# Altium footprint library 19C2830103-JOB.PcbLib: 69 footprints (part 4 of 6)
Each footprint in its own frame and in the unit in brackets; x right, y up, seen from the top. Pads: shape width x height; smd on the part's side, far side on the other; paste and mask are expansions set on the pad; w line width, h text height; cw(c..) or ccw(c..) is an arc to the next point about the centre after c.
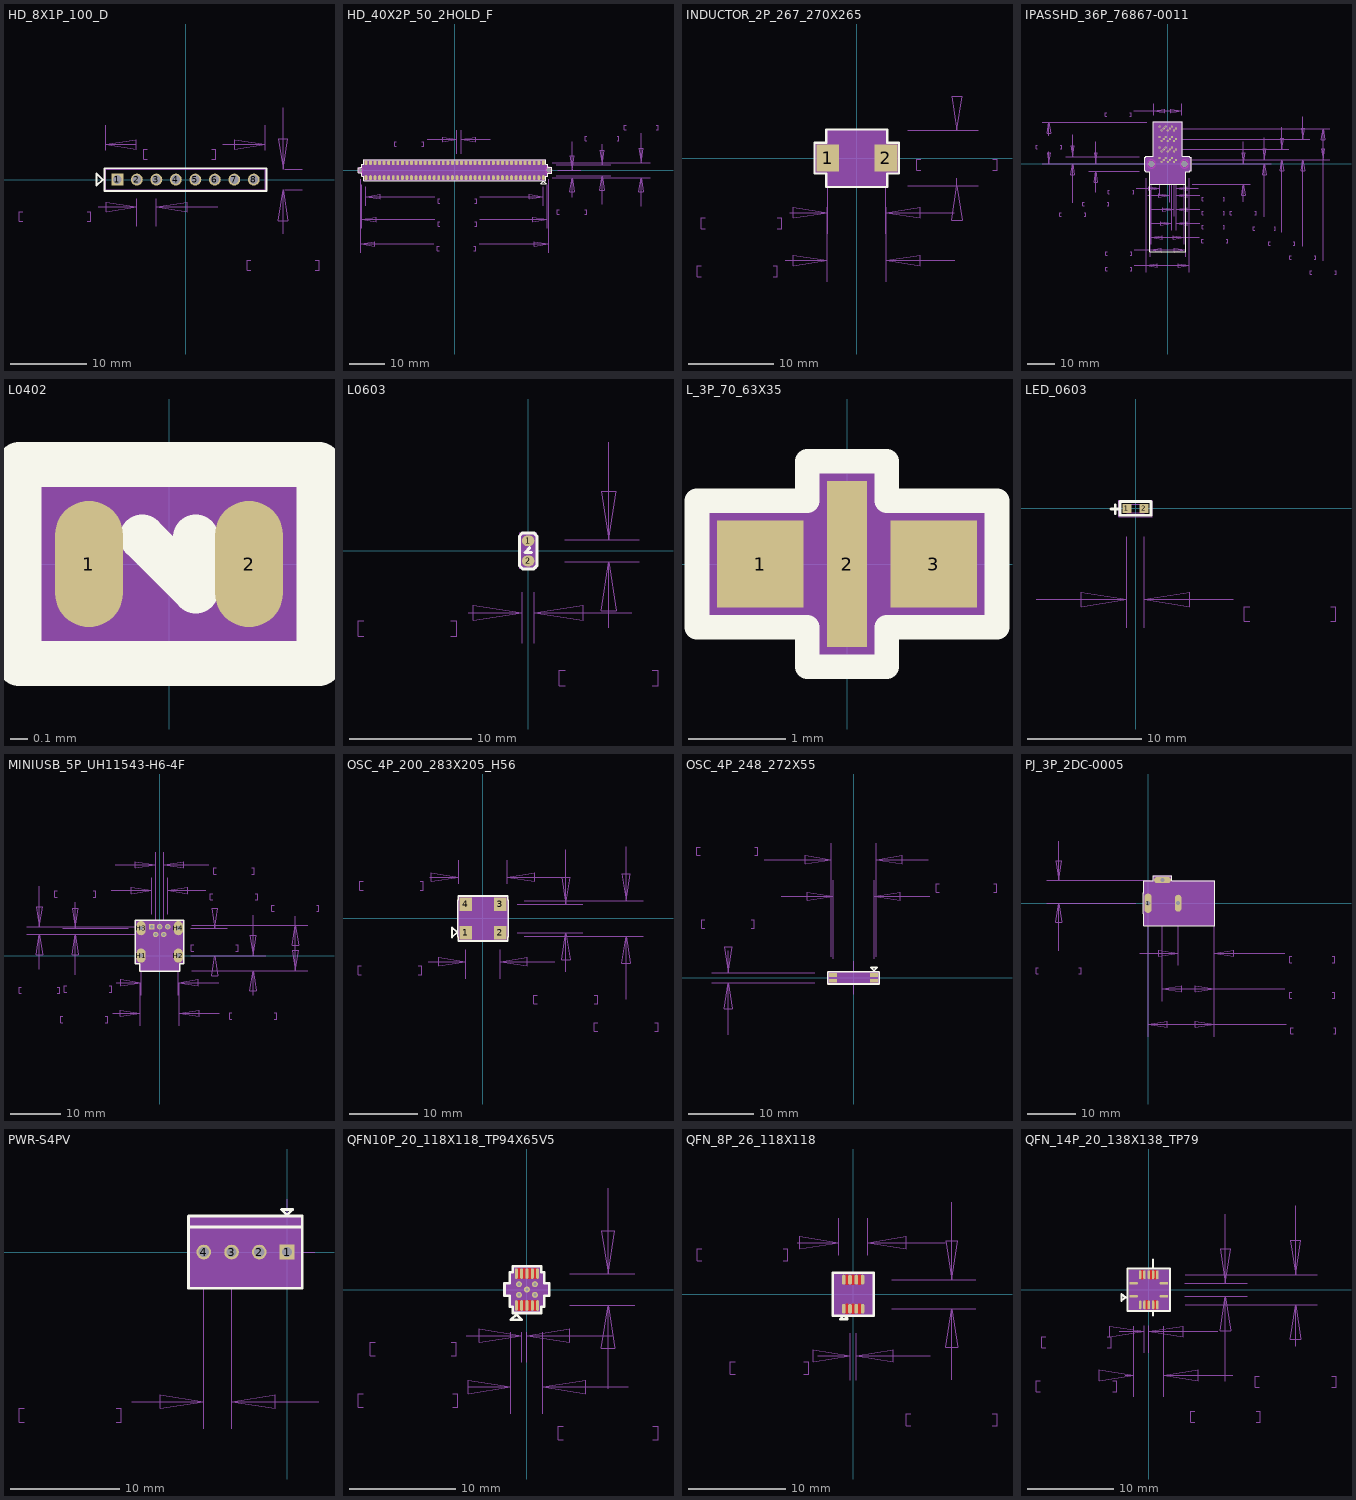
[diagram p3: the footprints below, top view; thin cyan lines are the x and y axes]

## HD_8X1P_100_D [mil] "HD_8X1P_100_D"
pads (8):
  rect 61x61 / inner rect 57x57 / far side rect 61x61 hole 45: 1(-350,0)
  round 61 / inner round 57 / far side round 61 hole 45: 2(-250,0) 3(-150,0) 4(-50,0) 5(50,0) 6(150,0) 7(250,0) 8(350,0)
Top Overlay:
  lines w10: -456,-30 -456,30 -426,0 -456,-30 ; -414.84,-57.95 -414.84,57.95 414.84,57.95 414.84,-57.95 -414.84,-57.95
Mechanical 15:
  text "2" at -261.2,0 h28
  text "1" at -361.2,0 h28
  text "6" at 138.8,0 h28
  text "4" at -61.2,0 h28
  text "7" at 238.8,0 h28
  text "3" at -161.2,0 h28
  text "8" at 338.8,0 h28
  text "5" at 38.8,0 h28
Mechanical 16:
  lines w1: -835.5,-215 -854.5,-215 -854.5,-165 -835.5,-165 ; -504.5,-215 -485.5,-215 -485.5,-165 -504.5,-165 ; -448,-140 -250,-140 ; -409.84,151.38 -409.84,278.43 ; -252,180 -409.84,180 ; -250,-238.43 -250,-98.43 ; -195.5,105 -214.5,105 -214.5,155 -195.5,155 ; -150,-238.43 -150,-98.43 ; 135.5,105 154.5,105 154.5,155 135.5,155 ; 164.96,-140 -150,-140 ; 192,180 409.84,180 ; 334.5,-465 315.5,-465 315.5,-415 334.5,-415 ; 409.84,151.38 409.84,278.43 ; 500,-277.5 500,-52.95 ; 500,367.91 500,52.95 ; 508.27,-52.95 598.43,-52.95 ; 508.27,52.95 598.43,52.95 ; 665.5,-465 684.5,-465 684.5,-415 665.5,-415 ; -409.84,-52.95 409.84,-52.95 ; -409.84,-52.95 -409.84,52.95 ; -409.84,-52.95 -409.84,52.95 ; -409.84,-52.95 409.84,-52.95 ; -409.84,52.95 409.84,52.95 ; -409.84,52.95 409.84,52.95 ; -409.84,180 -252.36,155.39 -252.36,204.61 -409.84,180 ; -250,-140 -407.48,-115.39 -407.48,-164.61 -250,-140 ; -150,-140 7.48,-164.61 7.48,-115.39 -150,-140 ; 409.84,-52.95 409.84,52.95 ; 409.84,-52.95 409.84,52.95 ; 409.84,180 252.36,204.61 252.36,155.39 409.84,180 ; 500,-52.95 475.39,-210.43 524.61,-210.43 500,-52.95 ; 500,52.95 524.61,210.43 475.39,210.43 500,52.95 ; -414.84,-57.95 -414.84,57.95 414.84,57.95 414.84,-57.95 -414.84,-57.95
Mechanical 17:
  text "2.54" at -765.5,-115 h36
  text "100.00" at -816.5,-215 h36
  text "20.82" at -151,205 h36
  text "819.69" at -176.5,105 h36
  text "2.69" at 404.5,-365 h36
  text "105.91" at 353.5,-465 h36
Mechanical 21:
  text ".Designator" at -105.8,-9.33 h28

## HD_40X2P_50_2HOLD_F [mil] "HD_40X2P_50_2HOLD_F"
pads (82):
  oval 32x53 smd: 1(975,-81.69) 2(975,81.69) 3(925,-81.69) 4(925,81.69) 5(875,-81.69) 6(875,81.69) 7(825,-81.69) 8(825,81.69) 9(775,-81.69) 10(775,81.69) 11(725,-81.69) 12(725,81.69) 13(675,-81.69) 14(675,81.69) 15(625,-81.69) 16(625,81.69) 17(575,-81.69) 18(575,81.69) 19(525,-81.69) 20(525,81.69) 21(475,-81.69) 22(475,81.69) 23(425,-81.69) 24(425,81.69) 25(375,-81.69) 26(375,81.69) 27(325,-81.69) 28(325,81.69) 29(275,-81.69) 30(275,81.69) 31(225,-81.69) 32(225,81.69) 33(175,-81.69) 34(175,81.69) 35(125,-81.69) 36(125,81.69) 37(75,-81.69) 38(75,81.69) 39(25,-81.69) 40(25,81.69) 41(-25,-81.69) 42(-25,81.69) 43(-75,-81.69) 44(-75,81.69) 45(-125,-81.69) 46(-125,81.69) 47(-175,-81.69) 48(-175,81.69) 49(-225,-81.69) 50(-225,81.69) 51(-275,-81.69) 52(-275,81.69) 53(-325,-81.69) 54(-325,81.69) 55(-375,-81.69) 56(-375,81.69) 57(-425,-81.69) 58(-425,81.69) 59(-475,-81.69) 60(-475,81.69) 61(-525,-81.69) 62(-525,81.69) 63(-575,-81.69) 64(-575,81.69) 65(-625,-81.69) 66(-625,81.69) 67(-675,-81.69) 68(-675,81.69) 69(-725,-81.69) 70(-725,81.69) 71(-775,-81.69) 72(-775,81.69) 73(-825,-81.69) 74(-825,81.69) 75(-875,-81.69) 76(-875,81.69) 77(-925,-81.69) 78(-925,81.69) 79(-975,-81.69) 80(-975,81.69)
  round 35 hole 35: H1(-1034.84,0)
  round 51 hole 51: H2(1034.84,0)
Top Overlay:
  lines w10: -1060.34,-25.5 -1060.34,25.5 -1034.84,25.5 -1034.84,33.5 -1023.7,33.5 -1023.7,67.01 -999,67.01 -999,116.19 999,116.19 999,67.01 1023.7,67.01 1023.7,33.5 1068.34,33.5 1068.34,-33.5 1023.7,-33.5 1023.7,-67.01 999,-67.01 999,-116.19 -999,-116.19 -999,-67.01 -1023.7,-67.01 -1023.7,-25.5 -1060.34,-25.5 ; 945,-151.19 975,-121.19 1005,-151.19 945,-151.19
  text ".Designator" at 1009.8,-120 h36
Mechanical 15:
  text "H2" at 1014.68,0 h25.2
  text "H1" at -1055,0 h25.2
  text "2" at 964.92,81.69 h25.2
  text "4" at 914.92,81.69 h25.2
  text "6" at 864.92,81.69 h25.2
  text "8" at 814.92,81.69 h25.2
  text "10" at 754.84,81.69 h25.2
  text "12" at 704.84,81.69 h25.2
  text "14" at 654.84,81.69 h25.2
  text "16" at 604.84,81.69 h25.2
  text "18" at 554.84,81.69 h25.2
  text "20" at 504.84,81.69 h25.2
  text "22" at 454.84,81.69 h25.2
  text "24" at 404.84,81.69 h25.2
  text "26" at 354.84,81.69 h25.2
  text "28" at 304.84,81.69 h25.2
  text "30" at 254.84,81.69 h25.2
  text "32" at 204.84,81.69 h25.2
  text "34" at 154.84,81.69 h25.2
  text "36" at 104.84,81.69 h25.2
  text "38" at 54.84,81.69 h25.2
  text "40" at 4.84,81.69 h25.2
  text "42" at -45.16,81.69 h25.2
  text "44" at -95.16,81.69 h25.2
  text "46" at -145.16,81.69 h25.2
  text "48" at -195.16,81.69 h25.2
  text "43" at -95.16,-81.69 h25.2
  text "45" at -145.16,-81.69 h25.2
  text "39" at 4.84,-81.69 h25.2
  text "41" at -45.16,-81.69 h25.2
  text "7" at 814.92,-81.69 h25.2
  text "9" at 764.92,-81.69 h25.2
  text "27" at 304.84,-81.69 h25.2
  text "29" at 254.84,-81.69 h25.2
  text "31" at 204.84,-81.69 h25.2
  text "33" at 154.84,-81.69 h25.2
  text "35" at 104.84,-81.69 h25.2
  text "37" at 54.84,-81.69 h25.2
  text "11" at 704.84,-81.69 h25.2
  text "13" at 654.84,-81.69 h25.2
  text "15" at 604.84,-81.69 h25.2
  text "17" at 554.84,-81.69 h25.2
  text "19" at 504.84,-81.69 h25.2
  text "21" at 454.84,-81.69 h25.2
  text "23" at 404.84,-81.69 h25.2
  text "25" at 354.84,-81.69 h25.2
  text "47" at -195.16,-81.69 h25.2
  text "51" at -295.16,-81.69 h25.2
  text "53" at -345.16,-81.69 h25.2
  text "49" at -245.16,-81.69 h25.2
  text "50" at -245.16,81.69 h25.2
  text "52" at -295.16,81.69 h25.2
  text "54" at -345.16,81.69 h25.2
  text "56" at -395.16,81.69 h25.2
  text "58" at -445.16,81.69 h25.2
  text "60" at -495.16,81.69 h25.2
  text "62" at -545.16,81.69 h25.2
  text "64" at -595.16,81.69 h25.2
  text "66" at -645.16,81.69 h25.2
  text "68" at -695.16,81.69 h25.2
  text "70" at -745.16,81.69 h25.2
  text "72" at -795.16,81.69 h25.2
  text "74" at -845.16,81.69 h25.2
  text "76" at -895.16,81.69 h25.2
  text "78" at -945.16,81.69 h25.2
  text "80" at -995.16,81.69 h25.2
  text "5" at 864.92,-81.69 h25.2
  text "3" at 914.92,-81.69 h25.2
  text "67" at -695.16,-81.69 h25.2
  text "65" at -645.16,-81.69 h25.2
  text "55" at -395.16,-81.69 h25.2
  text "59" at -495.16,-81.69 h25.2
  text "57" at -445.16,-81.69 h25.2
  text "61" at -545.16,-81.69 h25.2
  text "77" at -945.16,-81.69 h25.2
  text "75" at -895.16,-81.69 h25.2
  text "73" at -845.16,-81.69 h25.2
  text "71" at -795.16,-81.69 h25.2
  text "1" at 964.92,-81.69 h25.2
  text "79" at -995.16,-81.69 h25.2
  text "63" at -595.16,-81.69 h25.2
  text "69" at -745.16,-81.69 h25.2
Mechanical 16:
  pour cut-out: 999,116.19 999,67.01 1023.7,67.01 1023.7,33.5 1068.34,33.5 1068.34,-33.5 1023.7,-33.5 1023.7,-67.01 999,-67.01 999,-116.19 -999,-116.19 -999,-67.01 -1023.7,-67.01 -1023.7,-25.5 -1060.34,-25.5 -1060.34,25.5 -1034.84,25.5 -1034.84,33.5 -1023.7,33.5 -1023.7,67.01 -999,67.01 -999,116.19
  lines w1: -1034.84,-908.43 -1034.84,-98.43 ; -1018.7,-638.43 -1018.7,-160.43 ; -975,-388.43 -975,-180.12 ; -640.54,265 -659.64,265 -659.64,315 -640.54,315 ; -359.46,265 -340.36,265 -340.36,315 -359.46,315 ; -302.86,340 25,340 ; -228.31,-810 -1034.84,-810 ; -218.31,-540 -1018.7,-540 ; -218.31,-290 -975,-290 ; -171.72,-885 -190.81,-885 -190.81,-835 -171.72,-835 ; -161.72,-615 -180.81,-615 -180.81,-565 -161.72,-565 ; -161.72,-365 -180.81,-365 -180.81,-315 -161.72,-315 ; 25,180.12 25,438.43 ; 75,180.12 75,438.43 ; 211.72,-885 230.81,-885 230.81,-835 211.72,-835 ; 221.72,-615 240.81,-615 240.81,-565 221.72,-565 ; 221.72,-365 240.81,-365 240.81,-315 221.72,-315 ; 268.31,-810 1034.84,-810 ; 278.31,-540 1018.7,-540 ; 278.31,-290 975,-290 ; 389.96,340 75,340 ; 975,-388.43 975,-180.12 ; 1018.7,-638.43 1018.7,-160.43 ; 1034.84,-908.43 1034.84,-98.43 ; 1073.43,81.69 2148.43,81.69 ; 1117.13,-62.01 1718.43,-62.01 ; 1117.13,62.01 1718.43,62.01 ; 1133.27,0 1388.43,0 ; 1149.46,-485 1130.36,-485 1130.36,-435 1149.46,-435 ; 1290,-297.5 1290,-81.69 ; 1290,314.96 1290,0 ; 1388.43,-81.69 1073.43,-81.69 2148.43,-81.69 ; 1430.54,-485 1449.64,-485 1449.64,-435 1430.54,-435 ; 1453.87,325 1434.77,325 1434.77,375 1453.87,375 ; 1620,-376.97 1620,-62.01 ; 1620,287.5 1620,62.01 ; 1786.13,325 1805.22,325 1805.22,375 1786.13,375 ; 1883.87,445 1864.77,445 1864.77,495 1883.87,495 ; 2050,-396.65 2050,-81.69 ; 2050,407.5 2050,81.69 ; 2216.13,445 2235.22,445 2235.22,495 2216.13,495 ; -1034.84,-810 -877.36,-834.61 -877.36,-785.39 -1034.84,-810 ; -1018.7,-540 -861.22,-564.61 -861.22,-515.39 -1018.7,-540 ; -1018.7,-62.01 1018.7,-62.01 ; -1018.7,-62.01 -1018.7,62.01 ; -1018.7,-62.01 -1018.7,62.01 ; -1018.7,-62.01 1018.7,-62.01 ; -1018.7,62.01 1018.7,62.01 ; -1018.7,62.01 1018.7,62.01 ; -975,-290 -817.52,-314.61 -817.52,-265.39 -975,-290 ; 25,340 -132.48,364.61 -132.48,315.39 25,340 ; 75,340 232.48,315.39 232.48,364.61 75,340 ; 975,-290 817.52,-265.39 817.52,-314.61 975,-290 ; 1018.7,-540 861.22,-515.39 861.22,-564.61 1018.7,-540 ; 1018.7,-62.01 1018.7,62.01 ; 1018.7,-62.01 1018.7,62.01 ; 1034.84,-810 877.36,-785.39 877.36,-834.61 1034.84,-810 ; 1290,-81.69 1265.39,-239.17 1314.61,-239.17 1290,-81.69 ; 1290,0 1314.61,157.48 1265.39,157.48 1290,0 ; 1620,-62.01 1595.39,-219.49 1644.61,-219.49 1620,-62.01 ; 1620,62.01 1644.61,219.49 1595.39,219.49 1620,62.01 ; 2050,-81.69 2025.39,-239.17 2074.61,-239.17 2050,-81.69 ; 2050,81.69 2074.61,239.17 2025.39,239.17 2050,81.69
Multi-Layer keep-out:
  circle w1: c1034.84,0 r35.5
  circle w1: c-1034.84,0 r27.5
Mechanical 17:
  text "163.39" at 1902.96,445 h50
  text "4.15" at 1954.14,545 h50
  text "124.02" at 1472.96,325 h50
  text "3.15" at 1524.14,425 h50
  text "81.69" at 1168.55,-485 h50
  text "2.08" at 1194.14,-385 h50
  text "50.00" at -621.45,265 h50
  text "1.27" at -595.86,365 h50
  text "2069.69" at -152.63,-885 h50
  text "52.57" at -101.45,-785 h50
  text "2037.40" at -142.63,-615 h50
  text "51.75" at -91.45,-515 h50
  text "1950.00" at -142.63,-365 h50
  text "49.53" at -91.45,-265 h50

## INDUCTOR_2P_267_270X265 [mil] "INDUCTOR_2P_267_270X265"
pads (2):
  rect 105x125 smd: 1(-133.6,0) 2(133.6,0)
Top Overlay:
  lines w10: -194.1,-70.5 -194.1,70.5 -140.04,70.5 -140.04,132.36 140.04,132.36 140.04,70.5 194.1,70.5 194.1,-70.5 140.04,-70.5 140.04,-132.36 -140.04,-132.36 -140.04,-70.5 -194.1,-70.5
Mechanical 15:
  text "2" at 133.6,-11.2 h28
  text "1" at -133.6,-11.2 h28
Mechanical 16:
  pour cut-out: 140.04,132.36 140.04,70.5 194.1,70.5 194.1,-70.5 140.04,-70.5 140.04,-132.36 -140.04,-132.36 -140.04,-70.5 -194.1,-70.5 -194.1,70.5 -140.04,70.5 -140.04,132.36
  region: -135.04,-127.36 135.04,-127.36 135.04,127.36 -135.04,127.36
  lines w1: -715.5,-545 -734.5,-545 -734.5,-495 -715.5,-495 ; -695.5,-325 -714.5,-325 -714.5,-275 -695.5,-275 ; -384.5,-545 -365.5,-545 -365.5,-495 -384.5,-495 ; -364.5,-325 -345.5,-325 -345.5,-275 -364.5,-275 ; -328,-470 -135.04,-470 ; -308,-250 -133.6,-250 ; -135.04,-568.43 -135.04,-225.79 ; -133.6,-348.43 -133.6,-98.43 ; 133.6,-348.43 133.6,-98.43 ; 135.04,-568.43 135.04,-225.79 ; 233.46,-127.36 558.43,-127.36 ; 233.46,127.36 558.43,127.36 ; 294.5,-55 275.5,-55 275.5,-5 294.5,-5 ; 448.56,-250 133.6,-250 ; 450,-470 135.04,-470 ; 460,-92.5 460,-127.36 ; 460,132.5 460,127.36 ; 625.5,-55 644.5,-55 644.5,-5 625.5,-5 ; -135.04,-470 -292.52,-494.61 -292.52,-445.39 -135.04,-470 ; -133.6,-250 -291.08,-274.61 -291.08,-225.39 -133.6,-250 ; 133.6,-250 291.08,-225.39 291.08,-274.61 133.6,-250 ; 135.04,-470 292.52,-445.39 292.52,-494.61 135.04,-470 ; 460,-127.36 484.61,-284.84 435.39,-284.84 460,-127.36 ; 460,127.36 435.39,284.84 484.61,284.84 460,127.36 ; -135.04,-127.36 -135.04,127.36 135.04,127.36 135.04,-127.36 -135.04,-127.36
Mechanical 17:
  text "254.72" at 313.5,-55 h36
  text "6.47" at 364.5,45 h36
  text "270.08" at -696.5,-545 h36
  text "6.86" at -645.5,-445 h36
  text "267.20" at -676.5,-325 h36
  text "6.79" at -625.5,-225 h36
3D body: height 150, standoff 0, extent -135.04,-127.36 135.04,127.36

## IPASSHD_36P_76867-0011 [mil] "IPASSHD_36P_76867-0011"
pads (38):
  rect 31x31 / inner rect 27x27 / far side rect 31x31 hole 15: A1(-118.11,84.65)
  round 31 / inner round 27 / far side round 31 hole 15: A2(-88.58,29.53) A3(-59.06,57.09) A4(-29.53,84.65) A5(0,29.53) A6(29.53,57.09) A7(59.06,84.65) A8(88.58,29.53) A9(118.11,57.09) B1(-118.11,234.25) B2(-88.58,179.13) B3(-59.06,206.69) B4(-29.53,234.25) B5(0,179.13) B6(29.53,206.69) B7(59.06,234.25) B8(88.58,179.13) B9(118.11,206.69) C1(-118.11,383.86) C2(-88.58,328.74) C3(-59.06,356.3) C4(-29.53,383.86) C5(0,328.74) C6(29.53,356.3) C7(59.06,383.86) C8(88.58,328.74) C9(118.11,356.3) D1(-118.11,533.46) D2(-88.58,478.35) D3(-59.06,505.91) D4(-29.53,533.46) D5(0,478.35) D6(29.53,505.91) D7(59.06,533.46) D8(88.58,478.35) D9(118.11,505.91)
  round 87 / inner round 99 / far side round 177 hole 87: H1(-236.22,0) H2(236.22,0)
Top Layer keep-out:
  circle w1: c-236.22,0 r59.06
  circle w1: c236.22,0 r59.06
Top Overlay:
  lines w10: -257.95,-292.4 -257.95,-109.33 -313.27,-109.33 -313.27,-96.5 -332.72,-96.5 -332.72,96.5 -313.27,96.5 -313.27,109.72 -206.77,109.72 -206.77,603.03 206.77,603.03 206.77,109.72 313.27,109.72 313.27,96.5 332.72,96.5 332.72,-96.5 313.27,-96.5 313.27,-109.33 257.95,-109.33 257.95,-292.4 ; -257.95,-292.4 257.95,-292.4 ; -257.95,-292.4 -257.95,-1255 257.95,-1255 257.95,-292.4
  text ".Designator" at -238,221 h36
Mechanical 15:
  text "A2" at -88.58,9.53 h25
  text "D2" at -88.58,458.35 h25
  text "B5" at 0,159.13 h25
  text "B8" at 88.58,159.13 h25
  text "B7" at 59.06,214.25 h25
  text "B4" at -29.53,214.25 h25
  text "D1" at -118.11,513.46 h25
  text "D5" at 0,458.35 h25
  text "B2" at -88.58,159.13 h25
  text "A4" at -29.53,64.65 h25
  text "C2" at -88.58,308.74 h25
  text "D8" at 88.58,458.35 h25
  text "C4" at -29.53,363.86 h25
  text "C5" at 0,308.74 h25
  text "A7" at 59.06,64.65 h25
  text "C8" at 88.58,308.74 h25
  text "D7" at 59.06,513.46 h25
  text "C7" at 59.06,363.86 h25
  text "C1" at -118.11,363.86 h25
  text "B1" at -118.11,214.25 h25
  text "A8" at 88.58,9.53 h25
  text "A1" at -118.11,64.65 h25
  text "D4" at -29.53,513.46 h25
  text "A5" at 0,9.53 h25
  text "D9" at 118.11,485.91 h25
  text "D6" at 29.53,485.91 h25
  text "D3" at -59.06,485.91 h25
  text "C9" at 118.11,336.3 h25
  text "C6" at 29.53,336.3 h25
  text "C3" at -59.06,336.3 h25
  text "B9" at 118.11,186.69 h25
  text "B6" at 29.53,186.69 h25
  text "B3" at -59.06,186.69 h25
  text "A3" at -59.06,37.09 h25
  text "A6" at 29.53,37.09 h25
  text "A9" at 118.11,37.09 h25
  text "H1" at -236.22,-20 h25
  text "H2" at 236.22,-20 h25
Mechanical 16:
  drawing of 270 lines, arcs and shapes, not listed
Mechanical 17:
  text "6" at -689,-325 h50
  text "236.22" at -816.5,-425 h50
  text "2.25" at 554.5,-425 h50
  text "88.58" at 529,-525 h50
  text "0.75" at 554.5,-625 h50
  text "29.53" at 529,-725 h50
  text "1.5" at 580,-825 h50
  text "59.06" at 529,-925 h50
  text "12" at 625.5,-1025 h50
  text "472.44" at 523.5,-1125 h50
  text "12.85" at -821,-1205 h50
  text "505.91" at -846.5,-1305 h50
  text "15.66" at -821,-1425 h50
  text "616.54" at -846.5,-1525 h50
  text "10.25" at -831,785 h50
  text "403.54" at -856.5,685 h50
  text "7.3" at 1010,-625 h50
  text "287.40" at 933.5,-725 h50
  text "2.65" at -1125.5,-495 h50
  text "104.33" at -1176.5,-595 h50
  text "2.66" at -1455.5,-645 h50
  text "104.72" at -1506.5,-745 h50
  text "15.19" at -1821,315 h50
  text "598.03" at -1846.5,215 h50
  text "1.45" at 1284.5,-845 h50
  text "57.09" at 1259,-945 h50
  text "3.8" at 1560,-1065 h50
  text "149.61" at 1483.5,-1165 h50
  text "7.6" at 1860,-1265 h50
  text "299.21" at 1783.5,-1365 h50
  text "11.4" at 2124.5,-1475 h50
  text "448.82" at 2073.5,-1575 h50
3D body: height 150, standoff 0, extent -308.27,-287.4 308.27,598.03

## L0402 [mil] "L0402"
pads (2):
  oval 15x28 smd: 1(-17.72,0) 2(17.72,0)
Top Overlay:
  lines w10: -5.91,5.91 5.91,-5.91 5.91,5.91 ; -33.22,-22 -33.22,22 33.22,22 33.22,-22 -33.22,-22
Mechanical 15:
  text "1" at -17.72,11.2 h28
  text "2" at 17.72,11.2 h28
Mechanical 16:
  pour cut-out: -33.22,-22 33.22,-22 33.22,22 -33.22,22
  region: -19.68,-9.84 19.68,-9.84 19.68,9.84 -19.68,9.84
  lines w1: -19.68,-9.84 19.68,-9.84 19.68,9.84 -19.68,9.84 -19.68,-9.84
3D body: height 150, standoff 0, extent -19.68,-9.84 19.68,9.84

## L0603 [mil] "L0603"
pads (2):
  oval 40x35 smd: 1(0,32.5) 2(0,-32.5)
Top Overlay:
  lines w10: 5,10 -10,-5 10,-5 ; -28,-48 -28,48 -18,58 18,58 28,48 28,-48 18,-58 -18,-58 -28,-48
Mechanical 15:
  text "1" at 0,21.3 h28
  text "2" at 0,-43.7 h28
Mechanical 16:
  pour cut-out: -28,-58 28,-58 28,58 -28,58
  region: -19.68,-35.43 19.68,-35.43 19.68,35.43 -19.68,35.43
  lines w1: -530,-275 -549,-275 -549,-225 -530,-225 ; -250,-275 -231,-275 -231,-225 -250,-225 ; -193.5,-200 -19.68,-200 ; -19.68,-298.43 -19.68,-133.86 ; 19.68,-298.43 19.68,-133.86 ; 118.11,-35.43 358.43,-35.43 ; 118.11,35.43 358.43,35.43 ; 120,-435 101,-435 101,-385 120,-385 ; 260,-247.5 260,-35.43 ; 260,350.39 260,35.43 ; 334.64,-200 19.68,-200 ; 400,-435 419,-435 419,-385 400,-385 ; -19.68,-200 -177.16,-224.6 -177.16,-175.4 -19.68,-200 ; 19.68,-200 177.16,-175.4 177.16,-224.6 19.68,-200 ; 260,-35.43 284.6,-192.91 235.4,-192.91 260,-35.43 ; 260,35.43 235.4,192.91 284.6,192.91 260,35.43 ; -19.68,-35.43 19.68,-35.43 19.68,35.43 -19.68,35.43 -19.68,-35.43
Mechanical 17:
  text "1.8" at 190,-335 h36
  text "70.86" at 139,-435 h36
  text "1" at -409,-175 h36
  text "39.36" at -511,-275 h36
3D body: height 150, standoff 0, extent -19.68,-35.43 19.68,35.43

## L_3P_70_63X35 [mil] "L_3P_70_63X35"
pads (3):
  rect 35x35 smd: 1(-35.04,0) 3(35.04,0)
  rect 16x67 smd: 2(0,0)
Top Overlay:
  lines w10: -60.54,-25.5 -16,-25.5 -16,-41.5 16,-41.5 16,-25.5 60.54,-25.5 60.54,25.5 16,25.5 16,41.5 -16,41.5 -16,25.5 -60.54,25.5 -60.54,-25.5
Mechanical 15:
  text "3" at 46.24,0 h28
  text "1" at -23.84,0 h28
  text "2" at 11.2,0 h28
Mechanical 16:
  pour cut-out: -16,25.5 -16,41.5 16,41.5 16,25.5 60.54,25.5 60.54,-25.5 16,-25.5 16,-41.5 -16,-41.5 -16,-25.5 -60.54,-25.5 -60.54,25.5
  region: -31.5,-15.75 31.5,-15.75 31.5,15.75 -31.5,15.75
  lines w1: -31.5,-15.75 31.5,-15.75 31.5,15.75 -31.5,15.75 -31.5,-15.75
3D body: height 150, standoff 0, extent -31.5,-15.75 31.5,15.75

## LED_0603 [mil] "LED_0603"
pads (2):
  rect 32x32 smd: 1(-29.53,0) 2(29.53,0)
Top Overlay:
  lines w10: -85,-2.38 -55,-2.38 ; -70,-17.38 -70,12.62 ; -53.15,-23.62 53.15,-23.62 53.15,23.62 -53.15,23.62 -53.15,-23.62
  text ".Designator" at 26.8,81 h36
Mechanical 15:
  text "1" at -40.73,0 h28
  text "2" at 18.33,0 h28
Mechanical 16:
  lines w1: -344.49,-315 -29.53,-315 ; -29.53,-413.43 -29.53,-98.43 ; 29.53,-413.43 29.53,-98.43 ; 338.5,-315 29.53,-315 ; 395,-390 376,-390 376,-340 395,-340 ; 675,-390 694,-390 694,-340 675,-340 ; -29.53,-315 -187.01,-339.6 -187.01,-290.4 -29.53,-315 ; 29.53,-315 187.01,-290.4 187.01,-339.6 29.53,-315 ; -58.15,-28.62 58.15,-28.62 58.15,28.62 -58.15,28.62 -58.15,-28.62 ; -53.15,-23.62 53.15,-23.62 53.15,23.62 -53.15,23.62 -53.15,-23.62 ; -29.53,-14.96 29.53,-14.96 29.53,14.96 -29.53,14.96 -29.53,-14.96
Mechanical 17:
  text "1.5" at 465,-290 h36
  text "59.06" at 414,-390 h36

## MINIUSB_5P_UH11543-H6-4F [mil] "MINIUSB_5P_UH11543-H6-4F"
pads (9):
  rect 42x42 / inner rect 38x38 / far side rect 42x42 hole 26: 1(-62.99,226.38)
  round 42 / inner round 38 / far side round 42 hole 26: 2(-31.5,165.35) 3(0,226.38) 4(31.5,165.35) 5(62.99,226.38)
  oval 72x111 / inner oval 44x83 / far side oval 72x111 hole 32: H1(-145.67,0) H2(145.67,0) H3(-145.67,214.57) H4(145.67,214.57)
Top Overlay:
  lines w10: -189.67,-63.5 -156.57,-63.5 -156.57,-121.14 156.57,-121.14 156.57,-63.5 189.67,-63.5 189.67,278.07 -189.67,278.07 -189.67,-63.5
  text ".Designator" at -198.36,79.1 h36
Mechanical 15:
  text "3" at 0,216.38 h25
  text "2" at -31.5,155.35 h25
  text "1" at -62.99,216.38 h25
  text "H2" at 145.67,-20 h25
  text "H1" at -145.67,-20 h25
  text "H4" at 145.67,194.57 h25
  text "H3" at -145.67,194.57 h25
  text "5" at 62.99,216.38 h25
  text "4" at 31.5,155.35 h25
Mechanical 16:
  drawing of 150 lines, arcs and shapes, not listed
Mechanical 17:
  text "7.4" at -630,-185 h50
  text "291.34" at -706.5,-285 h50
  text "5.45" at 334.5,135 h50
  text "214.57" at 283.5,35 h50
  text "1.25" at -755.5,555 h50
  text "49.21" at -781,455 h50
  text "1.55" at -1035.5,-195 h50
  text "61.02" at -1061,-295 h50
  text "3.2" at 510,535 h50
  text "125.98" at 433.5,435 h50
  text "1.6" at 510,735 h50
  text "62.99" at 459,635 h50
  text "2.95" at 634.5,-395 h50
  text "116.14" at 583.5,-495 h50
  text "7.7" at -660,-425 h50
  text "303.15" at -736.5,-525 h50
  text "9" at 1041,445 h50
  text "354.33" at 913.5,345 h50
3D body: height 150, standoff 0, extent -151.57,-116.14 151.57,238.19

## OSC_4P_200_283X205_H56 [mil] "OSC_4P_200_283X205_H56"
pads (4):
  rect 71x79 smd: 1(-100,-82.68) 2(100,-82.68) 3(100,82.68) 4(-100,82.68)
Top Overlay:
  lines w10: -180.18,-110 -180.18,-50 -150.18,-80 -180.18,-110 ; -146.73,-107.36 -143.5,-107.36 -143.5,-130.18 143.5,-130.18 143.5,-107.36 146.73,-107.36 146.73,107.36 143.5,107.36 143.5,130.18 -143.5,130.18 -143.5,107.36 -146.73,107.36 -146.73,-107.36
  text ".Designator" at -98,-209.8 h36
Mechanical 15:
  text "4" at -100,71.48 h28
  text "1" at -100,-93.88 h28
  text "3" at 100,71.48 h28
  text "2" at 100,-93.88 h28
Mechanical 16:
  pour cut-out: 143.5,130.18 143.5,107.36 146.73,107.36 146.73,-107.36 143.5,-107.36 143.5,-130.18 -143.5,-130.18 -143.5,-107.36 -146.73,-107.36 -146.73,107.36 -143.5,107.36 -143.5,130.18
  lines w1: -705.5,-325 -724.5,-325 -724.5,-275 -705.5,-275 ; -695.5,165 -714.5,165 -714.5,215 -695.5,215 ; -374.5,-325 -355.5,-325 -355.5,-275 -374.5,-275 ; -364.5,165 -345.5,165 -345.5,215 -364.5,215 ; -318,-250 -100,-250 ; -308,240 -141.73,240 ; -141.73,200.79 -141.73,338.43 ; -100,-348.43 -100,-181.1 ; 100,-348.43 100,-181.1 ; 141.73,200.79 141.73,338.43 ; 198.43,-82.68 578.43,-82.68 ; 198.43,82.68 578.43,82.68 ; 240.16,-102.36 928.43,-102.36 ; 240.16,102.36 928.43,102.36 ; 314.5,-495 295.5,-495 295.5,-445 314.5,-445 ; 414.96,-250 100,-250 ; 456.69,240 141.73,240 ; 480,-307.5 480,-82.68 ; 480,397.64 480,82.68 ; 645.5,-495 664.5,-495 664.5,-445 645.5,-445 ; 664.5,-655 645.5,-655 645.5,-605 664.5,-605 ; 830,-467.5 830,-102.36 ; 830,417.32 830,102.36 ; 995.5,-655 1014.5,-655 1014.5,-605 995.5,-605 ; -141.73,-102.36 -141.73,102.36 ; -141.73,-102.36 141.73,-102.36 ; -141.73,-102.36 -141.73,102.36 ; -141.73,-102.36 141.73,-102.36 ; -141.73,102.36 141.73,102.36 ; -141.73,102.36 141.73,102.36 ; -141.73,240 -299.21,215.39 -299.21,264.61 -141.73,240 ; -100,-250 -257.48,-274.61 -257.48,-225.39 -100,-250 ; 100,-250 257.48,-225.39 257.48,-274.61 100,-250 ; 141.73,-102.36 141.73,102.36 ; 141.73,-102.36 141.73,102.36 ; 141.73,240 299.21,264.61 299.21,215.39 141.73,240 ; 480,-82.68 504.61,-240.16 455.39,-240.16 480,-82.68 ; 480,82.68 455.39,240.16 504.61,240.16 480,82.68 ; 830,-102.36 854.61,-259.84 805.39,-259.84 830,-102.36 ; 830,102.36 805.39,259.84 854.61,259.84 830,102.36
Mechanical 17:
  text "5.08" at -635.5,-225 h36
  text "200.00" at -686.5,-325 h36
  text "4.2" at 410,-395 h36
  text "165.35" at 333.5,-495 h36
  text "7.2" at -600,265 h36
  text "283.46" at -676.5,165 h36
  text "5.2" at 760,-555 h36
  text "204.72" at 683.5,-655 h36

## OSC_4P_248_272X55 [mil] "OSC_4P_248_272X55"
pads (4):
  rect 47x24 smd: 1(124.02,17.72) 2(-124.02,17.72) 3(-124.02,-17.72) 4(124.02,-17.72)
Top Overlay:
  lines w10: -92.51,37.73 -155.52,37.73 ; 92.52,-37.73 155.53,-37.73 ; -155.52,37.73 -150.52,37.73 155.53,37.73 155.53,-37.73 ; -155.52,37.73 -155.52,-37.73 150.53,-37.73 155.53,-37.73 ; 104.02,62.73 124.02,42.73 144.02,62.73 104.02,62.73
Mechanical 15:
  text "4" at 114.02,-17.72 h25
  text "1" at 114.02,17.72 h25
  text "3" at -134.02,-17.72 h25
  text "2" at -134.02,17.72 h25
Mechanical 16:
  pour cut-out: 155.53,37.73 155.53,-37.73 -155.52,-37.73 -155.52,37.73
  region: 135.83,29.53 135.83,-29.53 -135.83,-29.53 -135.83,29.53
  lines w1: -928.94,741.1 -947.93,741.1 -947.93,791.1 -928.94,791.1 ; -899.75,300.3 -918.74,300.3 -918.74,350.3 -899.75,350.3 ; -858.23,-29.53 -234.26,-29.53 ; -858.23,29.53 -234.26,29.53 ; -759.8,-344.49 -759.8,-29.53 ; -759.8,162.8 -759.8,29.53 ; -619.84,300.3 -600.85,300.3 -600.85,350.3 -619.84,350.3 ; -598.05,741.1 -579.06,741.1 -579.06,791.1 -598.05,791.1 ; -541.57,716.1 -135.83,716.1 ; -438.98,493.4 -124.02,493.4 ; -135.83,127.96 -135.83,814.53 ; -124.02,116.15 -124.02,591.83 ; -100,0 100,0 ; 0,-100 0,100 ; 124.02,116.15 124.02,591.83 ; 135.83,127.96 135.83,814.53 ; 450.79,716.1 135.83,716.1 ; 461.67,493.4 124.02,493.4 ; 518.16,518.4 499.17,518.4 499.17,568.4 518.16,568.4 ; 849.05,518.4 868.04,518.4 868.04,568.4 849.05,568.4 ; -759.8,-29.53 -735.2,-187.01 -784.4,-187.01 -759.8,-29.53 ; -759.8,29.53 -784.4,187.01 -735.2,187.01 -759.8,29.53 ; -135.83,716.1 -293.31,691.5 -293.31,740.7 -135.83,716.1 ; -124.02,493.4 -281.5,468.8 -281.5,518 -124.02,493.4 ; 124.02,493.4 281.5,518 281.5,468.8 124.02,493.4 ; 135.83,716.1 293.31,740.7 293.31,691.5 135.83,716.1 ; -135.83,-29.53 135.83,-29.53 135.83,29.53 -135.83,29.53 -135.83,-29.53
Mechanical 17:
  text "59.06" at -638.84,350.3 h50
  text "1.5" at -689.82,250.3 h50
  text "271.66" at -617.05,791.1 h50
  text "6.9" at -693.52,691.1 h50
  text "248.04" at 830.05,568.4 h50
  text "6.3" at 753.58,468.4 h50
3D body: height 150, standoff 0, extent -135.83,-29.53 135.83,29.53

## PJ_3P_2DC-0005 [mil] "PJ_3P_2DC-0005"
pads (3):
  oval 60x158 hole 40: 1(0,0)
  oval 52x138 hole 32: 2(246.06,0)
  oval 138x52 hole 32: 3(118.11,188.98)
Top Overlay:
  lines w10: -38,-87 -34.52,-87 -34.52,-182.17 546.34,-182.17 546.34,182.17 195.11,182.17 195.11,222.98 41.11,222.98 41.11,182.17 -34.52,182.17 -34.52,87 -38,87 -38,-87
  text ".Designator" at 52.69,-558.92 h36
Mechanical 15:
  text "1" at 10,-30 h25
  text "3" at 130,180 h25
  text "2" at 260,-10 h25
Mechanical 16:
  pour cut-out: 195.11,222.98 195.11,182.17 546.34,182.17 546.34,-182.17 -34.52,-182.17 -34.52,-87 -38,-87 -38,87 -34.52,87 -34.52,182.17 41.11,182.17 41.11,222.98
  region: -29.53,-177.17 541.34,-177.17 541.34,177.17 -29.53,177.17
  lines w1: -895.5,-575 -914.5,-575 -914.5,-525 -895.5,-525 ; -828.43,0 -98.43,0 ; -828.43,188.98 19.68,188.98 ; -730,-387.5 -730,0 ; -730,503.94 -730,188.98 ; -564.5,-575 -545.5,-575 -545.5,-525 -564.5,-525 ; -68.9,-410 246.06,-410 ; 0,-1088.43 0,-98.43 ; 118.11,-798.43 118.11,90.55 ; 246.06,-508.43 246.06,-98.43 ; 541.34,-1088.43 541.34,78.74 ; 541.34,-798.43 541.34,-275.6 541.34,-508.43 ; 1118,-700 541.34,-700 ; 1118,-410 541.34,-410 ; 1128,-990 541.34,-990 ; 1174.5,-775 1155.5,-775 1155.5,-725 1174.5,-725 ; 1174.5,-485 1155.5,-485 1155.5,-435 1174.5,-435 ; 1184.5,-1065 1165.5,-1065 1165.5,-1015 1184.5,-1015 ; 1505.5,-775 1524.5,-775 1524.5,-725 1505.5,-725 ; 1505.5,-485 1524.5,-485 1524.5,-435 1505.5,-435 ; 1515.5,-1065 1534.5,-1065 1534.5,-1015 1515.5,-1015 ; -730,0 -705.4,-157.48 -754.6,-157.48 -730,0 ; -730,188.98 -754.6,346.46 -705.4,346.46 -730,188.98 ; 0,-990 541.34,-990 ; 0,-990 157.48,-965.4 157.48,-1014.6 0,-990 ; 118.11,-700 541.34,-700 ; 118.11,-700 275.59,-675.4 275.59,-724.6 118.11,-700 ; 246.06,-410 88.58,-434.6 88.58,-385.4 246.06,-410 ; 541.34,-990 383.86,-1014.6 383.86,-965.4 541.34,-990 ; 541.34,-700 383.86,-724.6 383.86,-675.4 541.34,-700 ; 541.34,-410 698.82,-385.4 698.82,-434.6 541.34,-410 ; -29.52,-177.17 -29.52,177.17 541.34,177.17 541.34,-177.17 -29.52,-177.17
Mechanical 17:
  text "4.8" at -800,-475 h50
  text "188.98" at -876.5,-575 h50
  text "13.75" at 1229,-965 h50
  text "541.34" at 1203.5,-1065 h50
  text "10.75" at 1219,-675 h50
  text "423.23" at 1193.5,-775 h50
  text "7.5" at 1270,-385 h50
  text "295.28" at 1193.5,-485 h50
3D body: height 150, standoff 0, extent -29.53,-177.17 541.34,177.17

## PWR-S4PV [mil] "PWR-S4PV"
pads (4):
  rect 53x53 / inner rect 49x49 / far side rect 53x53 hole 37: 1(0,0)
  round 53 / inner round 49 / far side round 53 hole 37: 2(-100,0) 3(-200,0) 4(-300,0)
Top Overlay:
  lines w10: -355,90 55,90 ; -355,-130 -355,130 55,130 55,-130 -355,-130 ; -20,153.7 20,153.7 0,133.7 -20,153.7
  text ".Designator" at -417,65.2 h36
Mechanical 15:
  text "4" at -300,10 h25
  text "3" at -200,10 h25
  text "2" at -100,10 h25
  text "1" at 0,10 h25
Mechanical 16:
  pour cut-out: -355,-130 55,-130 55,130 -355,130
  region: -350,-125 50,-125 50,125 -350,125
  lines w1: -946.7,-613.5 -965.7,-613.5 -965.7,-563.5 -946.7,-563.5 ; -615.7,-613.5 -596.7,-613.5 -596.7,-563.5 -615.7,-563.5 ; -559.2,-538.5 -300,-538.5 ; -300,-636.93 -300,-98.43 ; -200,-636.93 -200,-98.43 ; -100,0 100,0 ; 0,-9.3 0,190.7 ; 114.96,-538.5 -200,-538.5 ; -300,-538.5 -457.48,-563.11 -457.48,-513.89 -300,-538.5 ; -200,-538.5 -42.52,-513.89 -42.52,-563.11 -200,-538.5 ; -350,-125 50,-125 50,125 -350,125 -350,-125
Mechanical 17:
  text "2.54" at -876.7,-513.5 h50
  text "100.00" at -927.7,-613.5 h50
3D body: height 150, standoff 0, extent -350,-125 50,125

## QFN10P_20_118X118_TP94X65V5 [mil] "QFN10P_20_118X118_TP94X65V5"
pads (16):
  oval 11x39 smd: 1(-39.37,-59.06) 2(-19.69,-59.06) 3(0,-59.06) 4(19.69,-59.06) 5(39.37,-59.06) 6(39.37,59.06) 7(19.69,59.06) 8(0,59.06) 9(-19.69,59.06) 10(-39.37,59.06)
  oct 1x1 smd: 11(0,0)
  round 22 hole 12: 12(-29.53,-19.69) 13(29.53,-19.69) 14(-29.53,19.69) 15(29.53,19.69) 16(0,0)
Top Layer:
  region: -33.87,-78.56 -29.53,-78.56 -29.53,-39.56 -33.87,-39.56
  region: -29.53,-78.56 -25.19,-78.56 -25.19,-39.56 -29.53,-39.56
  region: -14.19,-78.56 -9.85,-78.56 -9.85,-39.56 -14.19,-39.56
  region: -9.84,-78.56 -5.5,-78.56 -5.5,-39.56 -9.84,-39.56
  region: 5.5,-78.56 9.84,-78.56 9.84,-39.56 5.5,-39.56
  region: 9.85,-78.56 14.19,-78.56 14.19,-39.56 9.85,-39.56
  region: 25.19,-78.56 29.53,-78.56 29.53,-39.56 25.19,-39.56
  region: 29.53,-78.56 33.87,-78.56 33.87,-39.56 29.53,-39.56
  region: -33.87,39.56 -29.53,39.56 -29.53,78.56 -33.87,78.56
  region: -29.53,39.56 -25.19,39.56 -25.19,78.56 -29.53,78.56
  region: -14.19,39.56 -9.85,39.56 -9.85,78.56 -14.19,78.56
  region: -9.84,39.56 -5.5,39.56 -5.5,78.56 -9.84,78.56
  region: 5.5,39.56 9.84,39.56 9.84,78.56 5.5,78.56
  region: 9.85,39.56 14.19,39.56 14.19,78.56 9.85,78.56
  region: 25.19,39.56 29.53,39.56 29.53,78.56 25.19,78.56
  region: 29.53,39.56 33.87,39.56 33.87,78.56 29.53,78.56
Top Overlay:
  lines w10: -83,-23 -64.06,-23 -64.06,-64.06 -52.87,-64.06 -52.87,-86.56 52.87,-86.56 52.87,-64.06 64.06,-64.06 64.06,-23 83,-23 83,23 64.06,23 64.06,64.06 52.87,64.06 52.87,86.56 -52.87,86.56 -52.87,64.06 -64.06,64.06 -64.06,23 -83,23 -83,-23 ; -59.37,-111.56 -19.37,-111.56 -39.37,-91.56 -59.37,-111.56
  text ".Designator" at 149.2,44 h36
Mechanical 15:
  text "9" at -8.49,59.06 h28
  text "7" at 30.89,59.06 h28
  text "10" at -16.97,59.06 h28
  text "2" at -8.49,-59.06 h28
  text "5" at 50.57,-59.06 h28
  text "3" at 11.2,-59.06 h28
  text "1" at -28.17,-59.06 h28
  text "6" at 50.57,59.06 h28
  text "11" at 22.4,0 h28
  text "14" at -7.13,19.69 h28
  text "13" at 51.93,-19.69 h28
  text "15" at 51.93,19.69 h28
  text "16" at 22.4,0 h28
  text "12" at -7.13,-19.69 h28
  text "4" at 30.89,-59.06 h28
  text "8" at 11.2,59.06 h28
Mechanical 16:
  pour cut-out: 52.87,86.56 52.87,64.06 64.06,64.06 64.06,23 83,23 83,-23 64.06,-23 64.06,-64.06 52.87,-64.06 52.87,-86.56 -52.87,-86.56 -52.87,-64.06 -64.06,-64.06 -64.06,-23 -83,-23 -83,23 -64.06,23 -64.06,64.06 -52.87,64.06 -52.87,86.56
  region: -59.06,-59.06 59.06,-59.06 59.06,59.06 -59.06,59.06
  lines w1: -605.5,-435 -624.5,-435 -624.5,-385 -605.5,-385 ; -560,-245 -579,-245 -579,-195 -560,-195 ; -280,-245 -261,-245 -261,-195 -280,-195 ; -274.5,-435 -255.5,-435 -255.5,-385 -274.5,-385 ; -223.5,-170 -19.69,-170 ; -218,-360 -59.06,-360 ; -59.06,-458.43 -59.06,-157.48 ; -19.69,-268.43 -19.69,-157.48 ; 0,-268.43 0,-157.48 ; 59.06,-458.43 59.06,-157.48 ; 134.5,-555 115.5,-555 115.5,-505 134.5,-505 ; 157.48,-59.06 398.43,-59.06 ; 157.48,59.06 398.43,59.06 ; 300,-367.5 300,-59.06 ; 300,374.02 300,59.06 ; 314.96,-170 0,-170 ; 374.02,-360 59.06,-360 ; 465.5,-555 484.5,-555 484.5,-505 465.5,-505 ; -59.06,-360 -216.54,-384.61 -216.54,-335.39 -59.06,-360 ; -19.69,-170 -177.17,-194.61 -177.17,-145.39 -19.69,-170 ; 0,-170 157.48,-145.39 157.48,-194.61 0,-170 ; 59.06,-360 216.54,-335.39 216.54,-384.61 59.06,-360 ; 300,-59.06 324.61,-216.54 275.39,-216.54 300,-59.06 ; 300,59.06 275.39,216.54 324.61,216.54 300,59.06 ; -59.06,-59.06 59.06,-59.06 59.06,59.06 -59.06,59.06 -59.06,-59.06
Mechanical 17:
  text "0.5" at -490,-145 h36
  text "19.69" at -541,-245 h36
  text "3" at -459,-335 h36
  text "118.11" at -586.5,-435 h36
  text "3" at 281,-455 h36
  text "118.11" at 153.5,-555 h36
3D body: height 150, standoff 0, extent -59.06,-59.06 59.06,59.06

## QFN_8P_26_118X118 [mil] "QFN_8P_26_118X118"
pads (9):
  oval 15x40 smd: 1(-38.39,-59.06) 2(-12.8,-59.06) 3(12.8,-59.06) 4(38.39,-59.06) 5(38.39,59.06) 6(12.8,59.06) 7(-12.8,59.06) 8(-38.39,59.06)
  oct 1x1 smd: 9(0,0)
Top Layer:
  region: 25.6,39.06 30.89,39.06 30.89,79.06 25.6,79.06
  region: 20.3,39.06 25.6,39.06 25.6,79.06 20.3,79.06
  region: 0.01,39.06 5.3,39.06 5.3,79.06 0.01,79.06
  region: -5.3,39.06 -0.01,39.06 -0.01,79.06 -5.3,79.06
  region: -25.6,39.06 -20.3,39.06 -20.3,79.06 -25.6,79.06
  region: -30.89,39.06 -25.6,39.06 -25.6,79.06 -30.89,79.06
  region: 25.6,-79.06 30.89,-79.06 30.89,-39.06 25.6,-39.06
  region: 20.3,-79.06 25.6,-79.06 25.6,-39.06 20.3,-39.06
  region: 0.01,-79.06 5.3,-79.06 5.3,-39.06 0.01,-39.06
  region: -5.3,-79.06 -0.01,-79.06 -0.01,-39.06 -5.3,-39.06
  region: -25.6,-79.06 -20.3,-79.06 -20.3,-39.06 -25.6,-39.06
  region: -30.89,-79.06 -25.6,-79.06 -25.6,-39.06 -30.89,-39.06
Top Overlay:
  lines w10: -23,-101 -52,-101 -38.39,-87.06 -23,-99 ; -82.8,-87.06 72.8,-87.06 82.8,-87.06 82.8,77.06 82.8,87.06 -72.8,87.06 -82.8,87.06 -82.8,-87.06
Mechanical 15:
  text "5" at 38.39,70.26 h28
  text "8" at -38.39,70.26 h28
  text "1" at -38.39,-47.86 h28
  text "3" at 12.8,-47.86 h28
  text "9" at -50,22.4 h28
  text "4" at 38.39,-47.86 h28
  text "2" at -12.8,-47.86 h28
  text "6" at 12.8,70.26 h28
  text "7" at -12.8,70.26 h28
Mechanical 16:
  pour cut-out: -82.8,-87.06 82.8,-87.06 82.8,87.06 -82.8,87.06
  region: -59.05,-59.05 59.05,-59.05 59.05,59.05 -59.05,59.05
  lines w1: -615.5,135 -634.5,135 -634.5,185 -615.5,185 ; -480,-325 -499,-325 -499,-275 -480,-275 ; -284.5,135 -265.5,135 -265.5,185 -284.5,185 ; -228,210 -59.05,210 ; -200,-325 -181,-325 -181,-275 -200,-275 ; -143.5,-250 -12.8,-250 ; -59.05,157.48 -59.05,308.43 ; -12.8,-350 -12.8,-158.07 ; 12.8,-350 12.8,-158.07 ; 59.05,157.48 59.05,308.43 ; 157.48,-59.05 498.43,-59.05 ; 157.48,59.05 498.43,59.05 ; 234.5,-535 215.5,-535 215.5,-485 234.5,-485 ; 312.8,-250 12.8,-250 ; 374.01,210 59.05,210 ; 400,-347.5 400,-59.05 ; 400,374.01 400,59.05 ; 565.5,-535 584.5,-535 584.5,-485 565.5,-485 ; -59.05,210 -216.53,185.4 -216.53,234.6 -59.05,210 ; -12.8,-250 -162.8,-275 -162.8,-225 -12.8,-250 ; 12.8,-250 162.8,-225 162.8,-275 12.8,-250 ; 59.05,210 216.53,234.6 216.53,185.4 59.05,210 ; 400,-59.05 424.6,-216.53 375.4,-216.53 400,-59.05 ; 400,59.05 375.4,216.53 424.6,216.53 400,59.05 ; -59.05,-59.05 -59.05,59.05 59.05,59.05 59.05,-59.05 -59.05,-59.05 ; -45.47,-54.49 -45.47,-38.74 -31.3,-38.74 -31.3,-54.49 -45.47,-54.49 ; -45.47,38.74 -45.47,54.49 -31.3,54.49 -31.3,38.74 -45.47,38.74 ; -19.88,-54.49 -19.88,-38.74 -5.71,-38.74 -5.71,-54.49 -19.88,-54.49 ; -19.88,38.74 -19.88,54.49 -5.71,54.49 -5.71,38.74 -19.88,38.74 ; 5.71,-54.49 5.71,-38.74 19.88,-38.74 19.88,-54.49 5.71,-54.49 ; 5.71,38.74 5.71,54.49 19.88,54.49 19.88,38.74 5.71,38.74 ; 31.3,-54.49 31.3,-38.74 45.47,-38.74 45.47,-54.49 31.3,-54.49 ; 31.3,38.74 31.3,54.49 45.47,54.49 45.47,38.74 31.3,38.74
Mechanical 17:
  text "118.10" at 253.5,-535 h36
  text "3" at 381,-435 h36
  text "118.10" at -596.5,135 h36
  text "3" at -469,235 h36
  text "25.60" at -461,-325 h36
  text "0.65" at -435.5,-225 h36
Mechanical 21:
  text ".Designator" at 0,8.9 h28
3D body: height 150, standoff 0, extent -59.05,-59.05 59.05,59.05

## QFN_14P_20_138X138_TP79 [mil] "QFN_14P_20_138X138_TP79"
pads (15):
  oval 40x11 smd: 1(-68.9,-29.53) 7(68.9,-29.53) 8(68.9,29.53) 14(-68.9,29.53)
  oval 11x40 smd: 2(-39.37,-68.9) 3(-19.69,-68.9) 4(0,-68.9) 5(19.69,-68.9) 6(39.37,-68.9) 9(39.37,68.9) 10(19.69,68.9) 11(0,68.9) 12(-19.69,68.9) 13(-39.37,68.9)
  oct 1x1 smd: 15(0,0)
Top Layer:
  region: -14.19,-88.9 -9.85,-88.9 -9.85,-48.9 -14.19,-48.9
  region: -9.84,-88.9 -5.5,-88.9 -5.5,-48.9 -9.84,-48.9
  region: 25.19,-88.9 29.53,-88.9 29.53,-48.9 25.19,-48.9
  region: 29.53,-88.9 33.87,-88.9 33.87,-48.9 29.53,-48.9
  region: -33.87,48.9 -29.53,48.9 -29.53,88.9 -33.87,88.9
  region: -29.53,48.9 -25.19,48.9 -25.19,88.9 -29.53,88.9
  region: 5.5,48.9 9.84,48.9 9.84,88.9 5.5,88.9
  region: 9.85,48.9 14.19,48.9 14.19,88.9 9.85,88.9
  region: 25.19,48.9 29.53,48.9 29.53,88.9 25.19,88.9
  region: 29.53,48.9 33.87,48.9 33.87,88.9 29.53,88.9
Top Overlay:
  lines w10: 19.69,-116.9 19.69,-96.9 ; 19.69,96.9 19.69,136.9 ; -125,-50 -125,-20 -105,-35 -125,-50 ; -96.9,-96.9 -96.9,96.9 96.9,96.9 96.9,-96.9 -96.9,-96.9
  text ".Designator" at 90,171.2 h36
Mechanical 15:
  text "14" at -68.9,51.93 h28
  text "10" at 19.69,91.3 h28
  text "6" at 39.37,-57.7 h28
  text "9" at 39.37,80.1 h28
  text "8" at 68.9,40.73 h28
  text "11" at 0,91.3 h28
  text "12" at -19.69,91.3 h28
  text "1" at -68.9,-18.33 h28
  text "13" at -39.37,91.3 h28
  text "7" at 68.9,-18.33 h28
  text "5" at 19.69,-57.7 h28
  text "4" at 0,-57.7 h28
  text "15" at 0,22.4 h28
  text "2" at -39.37,-57.7 h28
  text "3" at -19.69,-57.7 h28
Mechanical 16:
  pour cut-out: -91.27,-91.27 91.27,-91.27 91.27,91.27 -91.27,91.27
  region: -68.9,-68.9 68.9,-68.9 68.9,68.9 -68.9,68.9
  lines w1: -495.5,-465 -514.5,-465 -514.5,-415 -495.5,-415 ; -470,-265 -489,-265 -489,-215 -470,-215 ; -190,-265 -171,-265 -171,-215 -190,-215 ; -164.5,-465 -145.5,-465 -145.5,-415 -164.5,-415 ; -133.5,-190 -19.69,-190 ; -108,-390 -68.9,-390 ; -68.9,-488.43 -68.9,-167.32 ; -19.69,-288.43 -19.69,-164.7 ; 0,-288.43 0,-164.7 ; 68.9,-488.43 68.9,-167.32 ; 164.7,-29.53 448.43,-29.53 ; 164.7,29.53 448.43,29.53 ; 167.32,-68.9 768.43,-68.9 ; 167.32,68.9 768.43,68.9 ; 210,-605 191,-605 191,-555 210,-555 ; 314.96,-190 0,-190 ; 350,-417.5 350,-29.53 ; 350,344.49 350,29.53 ; 383.86,-390 68.9,-390 ; 490,-605 509,-605 509,-555 490,-555 ; 504.5,-445 485.5,-445 485.5,-395 504.5,-395 ; 670,-257.5 670,-68.9 ; 670,383.86 670,68.9 ; 835.5,-445 854.5,-445 854.5,-395 835.5,-395 ; -68.9,-390 -226.38,-414.61 -226.38,-365.39 -68.9,-390 ; -19.69,-190 -177.17,-214.61 -177.17,-165.39 -19.69,-190 ; 0,-190 157.48,-165.39 157.48,-214.61 0,-190 ; 68.9,-390 226.38,-365.39 226.38,-414.61 68.9,-390 ; 350,-29.53 374.61,-187.01 325.39,-187.01 350,-29.53 ; 350,29.53 325.39,187.01 374.61,187.01 350,29.53 ; 670,-68.9 694.61,-226.38 645.39,-226.38 670,-68.9 ; 670,68.9 645.39,226.38 694.61,226.38 670,68.9 ; -68.9,-68.9 68.9,-68.9 68.9,68.9 -68.9,68.9 -68.9,-68.9
Mechanical 17:
  text "0.5" at -400,-165 h36
  text "19.69" at -451,-265 h36
  text "3.5" at -400,-365 h36
  text "137.80" at -476.5,-465 h36
  text "1.5" at 280,-505 h36
  text "59.06" at 229,-605 h36
  text "3.5" at 600,-345 h36
  text "137.80" at 523.5,-445 h36
3D body: height 150, standoff 0, extent -68.9,-68.9 68.9,68.9